# Altium schematic symbol library Transistors.SCHLIB: 4 symbols
Pins are listed as number, name and electrical type; pins without a type are passive.

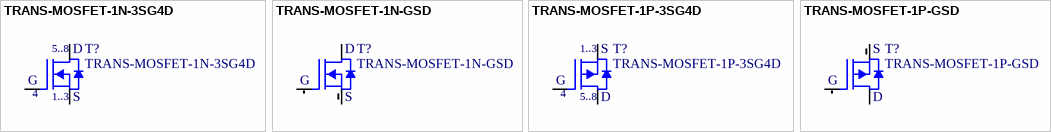
[diagram p0: symbols TRANS-MOSFET-1N-3SG4D to TRANS-MOSFET-1P-GSD]

## TRANS-MOSFET-1N-3SG4D
designator T?
Transistor MOSFET 1 x N, Pining : 1-3=S, 4=G, 5-8=S; VerifiedComment: Ok; VerifiedBy: DBR; VerifiedDate: 20101108
pins: 1 S, 2 S, 3 S, 4 G, 5 D, 6 D, 7 D, 8 D
text: 5..8; 1..3

## TRANS-MOSFET-1N-GSD
designator T?
Transistor MOSFET 1 x N, Pining : 1=G, 2=S, 3=D; VerifiedComment: Ok; VerifiedBy: DBR; VerifiedDate: 20071013
pins: 1 G, 2 S, 3 D

## TRANS-MOSFET-1P-3SG4D
designator T?
Transistor MOSFET 1 x P, Pining : 1-3=S, 4=G, 5-8=S; VerifiedComment: Ok; VerifiedBy: DBR; VerifiedDate: 20101108
pins: 1 S, 2 S, 3 S, 4 G, 5 D, 6 D, 7 D, 8 D
text: 1..3; 5..8

## TRANS-MOSFET-1P-GSD
designator T?
Transistor MOSFET 1 x P, Pining : 1=G, 2=S, 3=D
pins: 1 G, 2 S, 3 D